# Altium footprint library UVICHyrbidLibrary (1).PcbLib: 116 footprints (part 2 of 8)
Each footprint in its own frame and in the unit in brackets; x right, y up, seen from the top. Pads: shape width x height; smd on the part's side, far side on the other; paste and mask are expansions set on the pad; w line width, h text height; cw(c..) or ccw(c..) is an arc to the next point about the centre after c.
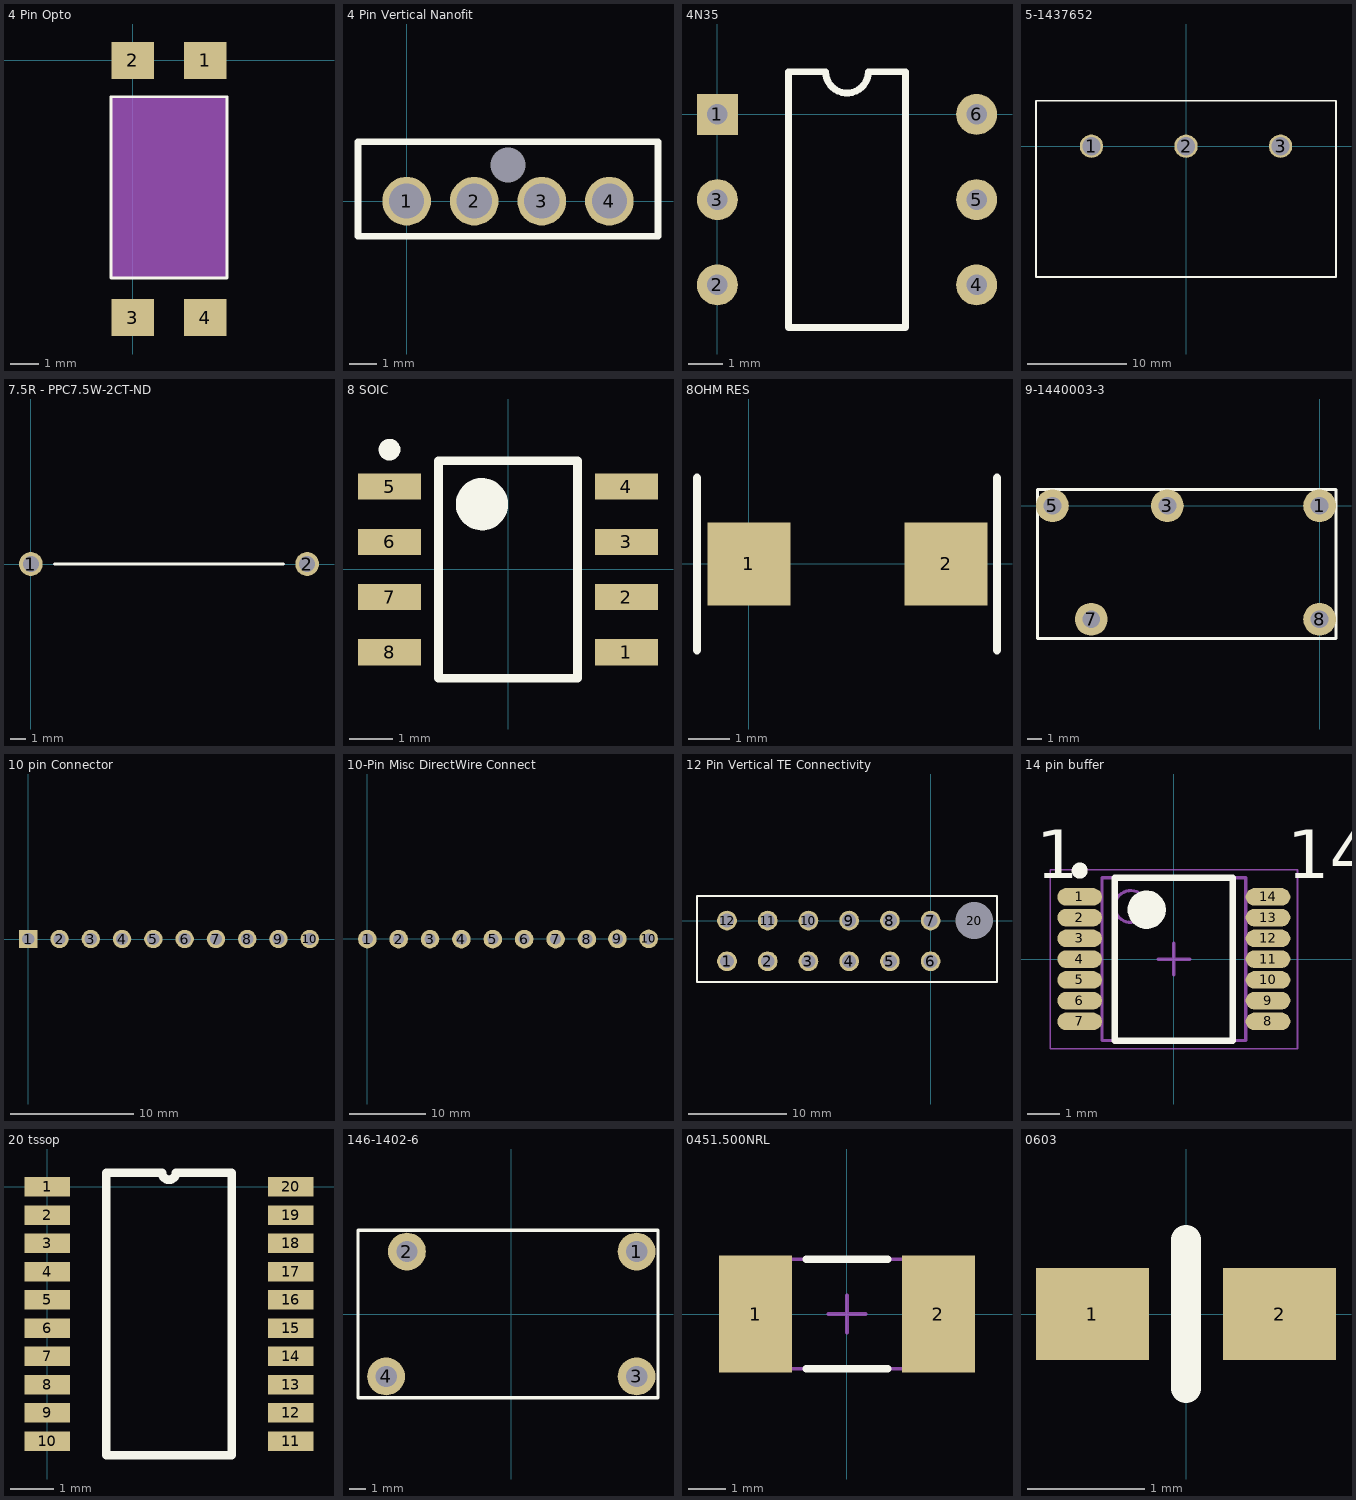
[diagram p1: the footprints below, top view; thin cyan lines are the x and y axes]

## 4 Pin Opto [mm]
pads (4):
  rect 1.5x1.3 smd: 1(2.54,0) 2(0,0) 3(0,-9) 4(2.54,-9)
Top Overlay:
  lines w0.1: -0.762,-7.62 3.302,-7.62 3.302,-1.27 -0.762,-1.27 -0.762,-7.62
Mechanical 1:
  rectangle: -0.762,-7.62 3.302,-1.27

## 4 Pin Vertical Nanofit [mm]
pads (5):
  round 1.8 hole 1.3: 1(0,0) 2(2.5,0) 3(5,0) 4(7.5,0)
  round 0 hole 1.3: 6(3.75,1.34)
Top Overlay:
  lines w0.254: -1.8,-1.3 -1.8,2.2 9.3,2.2 9.3,-1.3 -1.3,-1.3 -1.5,-1.3 -1.8,-1.3

## 4N35 [mm] "Vishay 4N35 DIP-6"
pads (6):
  rect 1.2x1.2 hole 0.6: 1(0,0)
  round 1.2 hole 0.6: 2(0,-5) 3(0,-2.5) 4(7.6,-5) 5(7.6,-2.5) 6(7.6,0)
Top Overlay:
  lines w0.2: 2.085,-6.25 2.085,1.25 3.175,1.25 ccw(c3.8,1.25) 4.425,1.25 5.515,1.25 5.515,-6.25 2.085,-6.25

## 5-1437652 [mm] "TE Connectivity 3 PIn Barrier Block Connector"
pads (3):
  round 2.35 hole 1.85: 1(-9.525,0) 2(0,0) 3(9.525,0)
Top Overlay:
  lines w0.2: -10.342,-13.21 -10.34,-13.208 ; -15.113,-13.208 15.113,-13.208 15.113,4.572 -15.113,4.572 -15.113,-13.208

## 7.5R - PPC7.5W-2CT-ND [mm]
pads (2):
  round 1.57 / inner round 1.67 / far side round 1.57 hole 1.07: 1(0,0) 2(18.3,0)
Top Overlay:
  lines w0.2: 1.57,0 3.96,0 ; 16.73,0 14.34,0 ; 3.96,0 14.34,0 ; 3.96,0 14.34,0

## 8 SOIC [mm] "SOIC, 8-Leads, Body 4.90x3.90mm, Pitch 1.27mm, IPC Medium Density"
height 1.75
pads (8):
  rect 1.45x0.6 smd: 1(2.725,-1.905) 2(2.725,-0.635) 3(2.725,0.635) 4(2.725,1.905) 5(-2.725,1.905) 6(-2.725,0.635) 7(-2.725,-0.635) 8(-2.725,-1.905)
Top Overlay:
  circle w0.6: c-0.6,1.5 r0.3
  circle w0.25: c-2.725,2.755 r0.125
  lines w0.2: -1.6,-2.5 1.6,-2.5 1.6,2.5 -1.6,2.5 -1.6,-2.5

## 8OHM RES [mm]
pads (2):
  rect 2x2 smd: 1(0,0) 2(4.75,0)
Top Overlay:
  lines w0.203: -1.25,-2.075 -1.25,2.075 ; 5.975,-2.075 5.975,2.075

## 9-1440003-3 [mm] "TE 12V, 5A, SPDT Relay"
pads (5):
  round 2.2 hole 1.2: 1(0,0) 3(-10.2,0) 5(-17.9,0) 7(-15.3,-7.6) 8(0,-7.6)
Top Overlay:
  lines w0.2: -18.9,-8.9 -18.9,1.1 1.1,1.1 1.1,-8.9 -18.9,-8.9
3D body: height 15.2, standoff 0.1, extent -18.9,-8.9 1.1,1.1

## 10 pin Connector [mm] "ETB Controller 100mil spacing"
pads (10):
  rect 1.5x1.5 hole 1: 1(0,0)
  round 1.5 hole 1: 2(2.54,0) 3(5.08,0) 4(7.62,0) 5(10.16,0) 6(12.7,0) 7(15.24,0) 8(17.78,0) 9(20.32,0) 10(22.86,0)

## 10-Pin Misc DirectWire Connect [mm]
pads (10):
  round 2.45 hole 1.45: 1(-0.013,-0.026) 2(4.127,-0.026) 3(8.268,-0.026) 4(12.408,-0.026) 5(16.548,-0.026) 6(20.688,-0.026) 7(24.829,-0.026) 8(28.969,-0.026) 9(32.996,0) 10(37.123,0)

## 12 Pin Vertical TE Connectivity [mm]
pads (13):
  round 2 hole 1.41: 1(-20.7,-4.14) 2(-16.56,-4.14) 3(-12.42,-4.14) 4(-8.28,-4.14) 5(-4.14,-4.14) 6(0,-4.14) 7(0,0) 8(-4.14,0) 9(-8.28,0) 10(-12.42,0) 11(-16.56,0) 12(-20.7,0)
  round 2 hole 3.8 unplated: 20(4.45,0)
Top Overlay:
  lines w0.2: -23.75,-6.25 -23.75,2.5 6.75,2.5 6.75,-6.25 -23.75,-6.25

## 14 pin buffer [mm] "DIGIKEY: MC74ACT125DTR2GOSCT-ND, TSOP, 14-Leads, Body 5.00x4.40mm, Pitch 0.65mm, IPC Medium Density"
height 1.2
pads (14):
  oval 1.4x0.55 smd: 1(-2.95,1.95) 2(-2.95,1.3) 3(-2.95,0.65) 4(-2.95,0) 5(-2.95,-0.65) 6(-2.95,-1.3) 7(-2.95,-1.95) 8(2.95,-1.95) 9(2.95,-1.3) 10(2.95,-0.65) 11(2.95,0) 12(2.95,0.65) 13(2.95,1.3) 14(2.95,1.95)
Top Overlay:
  circle w0.25: c-2.95,2.775 r0.125
  circle w0.6: c-0.85,1.55 r0.3
  lines w0.2: -1.85,-2.55 -1.85,2.55 1.85,2.55 1.85,-2.55 -1.85,-2.55
  text "14" at 3.556,2.54 h1.52
  text "1" at -4.318,2.54 h1.52
Mechanical 13:
  circle w0.1: c-1.35,1.65 r0.5
  lines w0.1: -2.25,-2.55 -2.25,2.55 2.25,2.55 2.25,-2.55 -2.25,-2.55
Mechanical 15:
  lines w0.05: -3.875,-2.8 -3.875,2.8 3.875,2.8 3.875,-2.8 -3.875,-2.8
  lines w0.1: -0.5,0 0.5,0 ; 0,-0.5 0,0.5
3D body "14 pin buffer.step": height 1.2, standoff 0, extent -3.2,-2.55 3.2,2.55

## 20 tssop [mm]
pads (20):
  rect 1.05x0.45 smd: 1(0,0) 2(0,-0.65) 3(0,-1.3) 4(0,-1.95) 5(0,-2.6) 6(0,-3.25) 7(0,-3.9) 8(0,-4.55) 9(0,-5.2) 10(0,-5.85) 11(5.6,-5.85) 12(5.6,-5.2) 13(5.6,-4.55) 14(5.6,-3.9) 15(5.6,-3.25) 16(5.6,-2.6) 17(5.6,-1.95) 18(5.6,-1.3) 19(5.6,-0.65) 20(5.6,0)
Top Overlay:
  lines w0.2: 1.36,-6.175 4.24,-6.175 4.24,0.325 2.962,0.325 cw(c2.8,0.325) 2.638,0.325 1.36,0.325 1.36,-6.175

## 146-1402-6 [mm] "TE 12V, 10A, SPST Relay"
pads (4):
  round 2.3 hole 1.3: 1(7.62,3.8) 2(-6.35,3.8) 3(7.62,-3.8) 4(-7.62,-3.8)
Top Overlay:
  lines w0.2: -9.33,-5.1 -9.33,5.1 8.92,5.1 8.92,-5.1 -9.33,-5.1
3D body: height 14.6, standoff 0.1, extent -9.33,-5.1 8.92,5.1

## 0451.500NRL [mm] "Fuse Board MNT 500mA 125VAC/DC"
height 2.94
pads (2):
  rect 1.96x3.15 smd: 1(-2.455,0) 2(2.455,0)
Top Overlay:
  lines w0.2: -1.1,-1.475 1.1,-1.475 ; -1.1,1.475 1.1,1.475
Mechanical 13:
  lines w0.1: -3.15,-1.47 3.15,-1.47 3.15,1.47 -3.15,1.47 -3.15,-1.47
Mechanical 15:
  lines w0.1: -0.5,0 0.5,0 ; 0,-0.5 0,0.5
3D body: height 2.94, standoff 0, extent 1.7,-1.47 3.15,1.47
3D body: height 2.94, standoff 0, extent -3.15,-1.47 -1.7,1.47
3D body: height 2.94, standoff 0, extent -1.7,-1.47 1.7,1.47

## 0603 [mil]
pads (2):
  rect 38x31 smd: 1(-31.5,0) 2(31.5,0)
Top Overlay:
  lines w10: 0,-25 0,25